# Altium schematic symbol library WL-TTRW.SchLib: 2 symbols
Pins are listed as number, name and electrical type; pins without a type are passive.

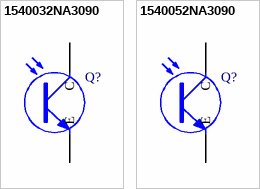
[diagram p0: symbols 1540032NA3090 to 1540052NA3090]

## 1540032NA3090
designator Q?  (value not drawn)
WL-TTRW THT Phototransistor Round Waterclear, D3.85H5.3mm, 400-1100nm, 5mA, 30°; Manufacturer: Wurth Elektronik; Chip Technology: Si; Collector Current Min: 15mA; Collector-Emitter Dark Current: 300nA; Polarity: NPN Phototransistor; Range of Spectral Bandwidth Min: 400nm; Range of Spectral Bandwidth Max: 1100nm; Wavelength of Peak Sensitivity: 850nm; ComponentLink1Description: Website Link; ComponentLink1URL: https://www.we-online.com/redexpert/article/1540032NA3090?ad; ComponentLink2Description: Datasheet Link; ComponentLink2URL: https://www.we-online.com/redexpert/spec/1540032NA3090?ad; Manufacturer Part Number: 1540032NA3090; Category: Phototransistors; Match Code: WL-TTRW; Mount: Through Hole; Operating Temperature Max: 85°C; Operating Temperature Min: -40°C; Packaging: Bulk; Height: 5.3mm; Diameter: 3.85mm; Collector Current: 5mA; Viewing Angle: 30°
footprint WL-TTRW_D3.85H5.3
pins: 1 C, 2 E

## 1540052NA3090
designator Q?  (value not drawn)
WL-TTRW THT Phototransistor Round Waterclear, D5.8H8.7mm, 400-1100nm, 6mA, 30°; Manufacturer: Wurth Elektronik; Chip Technology: Si; Collector Current Min: 15mA; Collector-Emitter Dark Current: 300nA; Polarity: NPN Phototransistor; Range of Spectral Bandwidth Min: 400nm; Range of Spectral Bandwidth Max: 1100nm; Wavelength of Peak Sensitivity: 850nm; ComponentLink1Description: Website Link; ComponentLink1URL: https://www.we-online.com/redexpert/article/1540052NA3090?ad; ComponentLink2Description: Datasheet Link; ComponentLink2URL: https://www.we-online.com/redexpert/spec/1540052NA3090?ad; Manufacturer Part Number: 1540052NA3090; Category: Phototransistors; Match Code: WL-TTRW; Mount: Through Hole; Operating Temperature Max: 85°C; Operating Temperature Min: -40°C; Packaging: Bulk; Height: 8.7mm; Diameter: 5.8mm; Collector Current: 6mA; Viewing Angle: 30°
footprint WL-TTRW_D5.8H8.7
pins: 1 C, 2 E